# Altium schematic symbol library ADP2302ARDZ-5.SCHLIB: 1 symbol
Pins are listed as number, name and electrical type; pins without a type are passive.

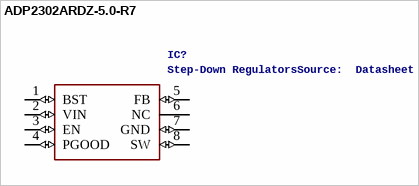
[diagram p0: symbol ADP2302ARDZ-5.0-R7]

## ADP2302ARDZ-5.0-R7
designator IC?, comment Step-Down RegulatorsSource:  Datasheet
Manufacturer_Name: Analog Devices; GateName_1: G$1; SymbolName_1: ADP2302ARDZ-5.0-R7; LibraryName: ADP2302ARDZ-5.0-R7; DeviceSetName: ADP2302ARDZ-5.0-R7; Package: SOIC127P600X175-9N; Manufacturer_Part_Number: ADP2302ARDZ-5.0-R7; RS_Part_Number: 7591815P; RS_Price-Stock: http://uk.rs-online.com/web/p/products/7591815P; Arrow_Part_Number: ADP2302ARDZ-5.0-R7; Arrow_Price-Stock: https://www.arrow.com/en/products/adp2302ardz-5.0-r7/analog-devices; Description: Step-Down Regulators; Height: mm
footprint SOIC127P600X175-9N
pins: 1 BST (io), 2 VIN (io), 3 EN (io), 4 PGOOD (io), 5 FB (io), 6 NC, 7 GND (io), 8 SW (io)